# EAGLE library part SPDG-P94 (library Rebel)
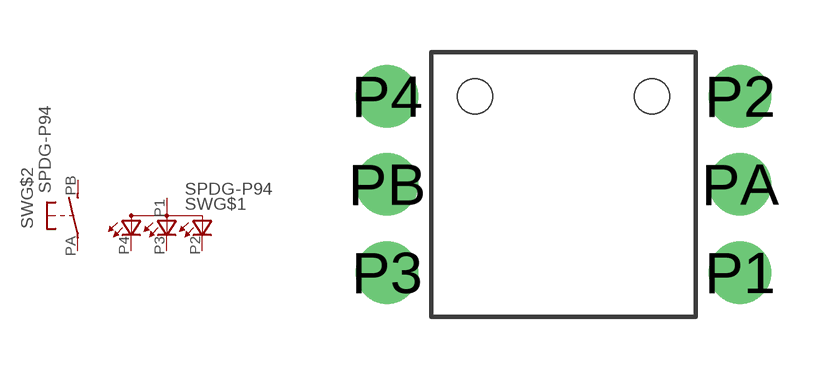
[diagram p35: symbol with the pads of SPDG-P94; footprint SPDG-P94]

Designator prefix SW; gates G$1=LED-RGB-A G$2=TS

## SPDG-P94  [SPDG-P94]
P1  G$1:A  pas
P2  G$1:CGREEN  pas
P3  G$1:CBLUE  pas
P4  G$1:CRED  pas
PA  G$2:P  pas
PB  G$2:S  pas

## Footprint SPDG-P94 (pad centres in mm)
drill 1.2: P1 5.08,-2.54; P2 5.08,2.54; P3 -5.08,-2.54; P4 -5.08,2.54; PA 5.08,0; PB -5.08,0
hole 1 at 2.54,2.54
hole 1 at -2.54,2.54